# Altium schematic symbol library Resistors.SCHLIB: 35 symbols
Pins are listed as number, name and electrical type; pins without a type are passive.

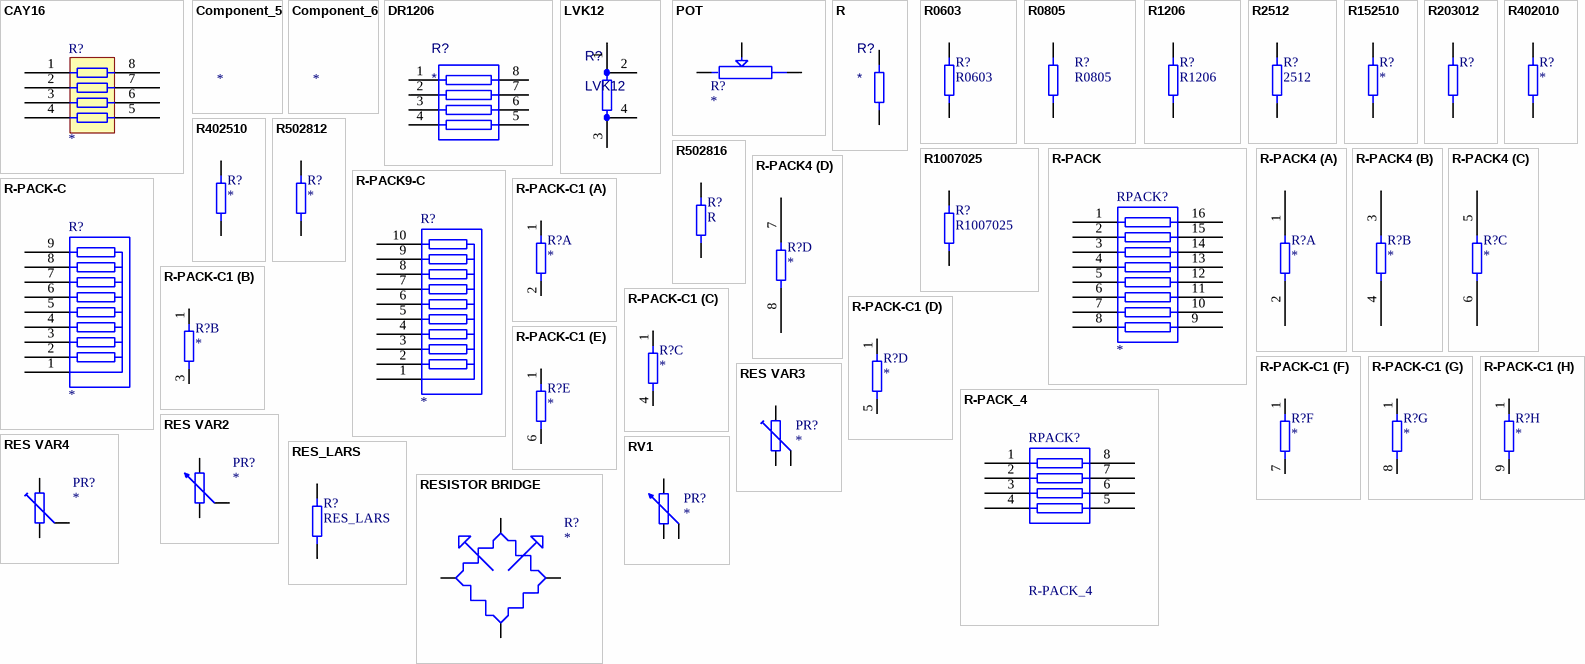
[diagram p0: symbols CAY16 to RV1]

## CAY16
designator R?
footprint CAY16
pins: 1 R1A, 2 R2A, 3 R3A, 4, 5, 6, 7, 8

## Component_5
designator ?

## Component_6
designator ?

## DR1206
designator R?
Value: Value; OtherParams: *
pins: 1 R1, 2 R2, 3 R3, 4 R4, 5 R5, 6 R6, 7 R7, 8 R8

## LVK12
designator R?
Value: LVK12
pins: 1, 2, 3, 4

## POT
designator R?
pins: 1, 2, 3

## R
designator R?
Value: R; OtherParams: *
pins: 1, 2

## R0603
designator R?
Value: R0603
footprint 0603
pins: 1, 2

## R0805
designator R?
Value: R0805
footprint 0805
pins: 1, 2

## R1206
designator R?
Resistor SMD; Value: R1206
footprint 1206
pins: 1, 2

## R2512
designator R?, comment 2512
Value: 2512
footprint 2512
pins: 1, 2

## R152510
designator R?
footprint R152510
footprint 1206
pins: 1, 2

## R203012
designator R?
Resistor; Order code: *; Supplier: *
footprint C102010
footprint R203012
pins: 1, 2

## R402010
designator R?
MLT 1/8W
footprint R402010
pins: 1, 2

## R402510
designator R?
MLT 1/4W
footprint R402510
footprint 0805
footprint 1206
footprint 0603
pins: 1, 2

## R502812
designator R?
Resistor 0.5W
footprint R502812
footprint R402510
footprint 1206
pins: 1, 2

## R502816
designator R?, comment R
Value: R
simulation model Resistor model (Model Description)
footprint R502816
pins: 1, 2

## R1007025
designator R?
Value: R1007025
simulation model Resistor model (Model Description)
footprint R1007025
pins: 1, 2

## R-PACK
designator RPACK?
pins: 1 R1, 2 R2, 3 R3, 4 R4, 5 R5, 6 R6, 7 R7, 8 R8, 9 R8, 10 R7, 11 R6, 12 R5, 13 R4, 14 R3, 15 R2, 16 R1

## R-PACK4
designator R?
part A pins: 1, 2
part B pins: 3, 4
part C pins: 5, 6
part D pins: 7, 8

## R-PACK9-C
designator R?
pins: 1, 2, 3, 4, 5, 6, 7, 8, 9, 10

## R-PACK-C
designator R?
footprint 9SIP100
pins: 1, 2 R8, 3 R7, 4 R6, 5 R5, 6 R4, 7 R3, 8 R2, 9 R1

## R-PACK-C1
designator R?
pins on every part: 1
part A pins: 2
part B pins: 3 2
part C pins: 4 2
part D pins: 5 2
part E pins: 6 2
part F pins: 7 2
part G pins: 8 2
part H pins: 9 2

## R-PACK_4
designator RPACK?
Value: R-PACK_4
footprint 1206RP
pins: 1 R1, 2 R2, 3 R3, 4 R4, 5 R5, 6 R6, 7 R7, 8 R8

## RES VAR2
designator PR?
pins: 1, 2, 3

## RES VAR3
designator PR?
pins: 1, 2, 3, 4

## RES VAR4
designator PR?
pins: 1, 2, 3

## RES_LARS
designator R?
Value: RES_LARS
pins: 1, 2

## RESISTOR BRIDGE
designator R?
pins: 1, 2, 3, 4

## RV1
designator PR?
pins: 1, 2, 3

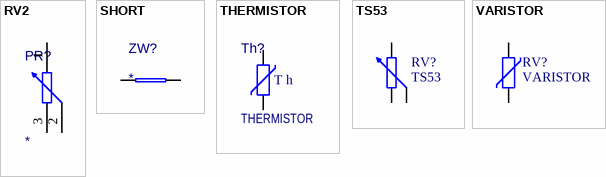
[diagram p1: symbols RV2 to VARISTOR]

## RV2
designator PR?  (value not drawn)
Value: RV2; OtherParams: *
pins: 1, 2, 3

## SHORT
designator ZW?
Value: *
pins: 1, 2

## THERMISTOR
designator Th?  OtherParams: THERMISTOR  (hidden comment: *)
Value: *
pins: 1, 2
text: T h

## TS53
designator RV?
Value: TS53
footprint TS53YL (Footprint not found)
pins: 1, 2, 3

## VARISTOR
designator RV?
Value: VARISTOR
pins: 1, 2